# Altium footprint library SPST-NO Solid State Relay - IXYS.PcbLib: 1 footprints
Each footprint in its own frame and in the unit in brackets; x right, y up, seen from the top. Pads: shape width x height; smd on the part's side, far side on the other; paste and mask are expansions set on the pad; w line width, h text height; cw(c..) or ccw(c..) is an arc to the next point about the centre after c.
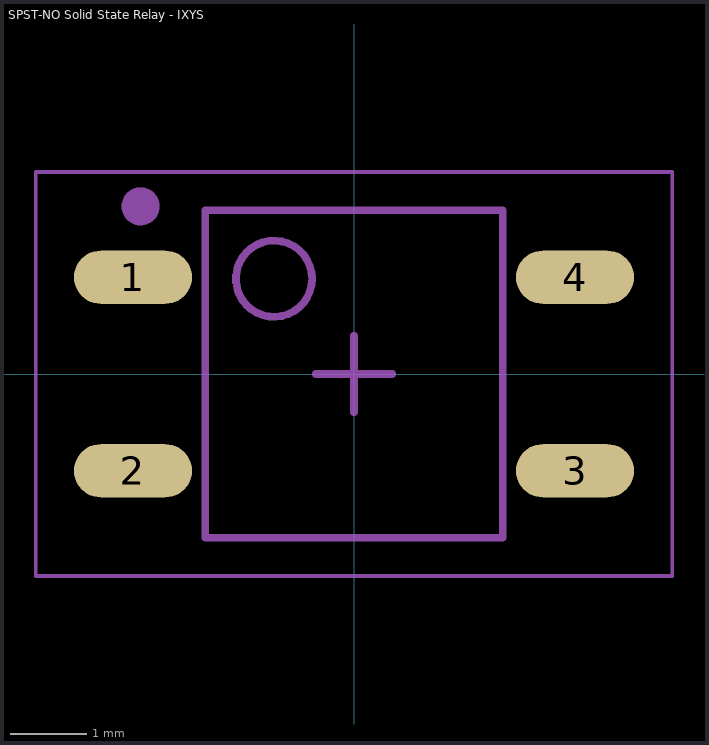
[diagram p0: the footprint, top view; thin cyan lines are the x and y axes]

## SPST-NO Solid State Relay - IXYS [mm] "Digikey: CLA233CT-ND / MFG: CPC1017NTR"
height 2.19
pads (4):
  oval 1.55x0.7 smd: 1(-2.9,1.27) 2(-2.9,-1.27) 3(2.9,-1.27) 4(2.9,1.27)
Mechanical 6:
  text "'.Designator'" at -1.1,-0.3 h0.6
Mechanical 8:
  circle w0.25: c-2.8,2.2 r0.125
  lines w0.05: -4.175,-2.65 -4.175,2.65 4.175,2.65 4.175,-2.65 -4.175,-2.65
Mechanical 13:
  circle w0.1: c-1.05,1.25 r0.5
  lines w0.1: -1.95,-2.15 1.95,-2.15 1.95,2.15 -1.95,2.15 -1.95,-2.15
Mechanical 15:
  lines w0.05: -4.175,-2.65 4.175,-2.65 4.175,2.65 -4.175,2.65 -4.175,-2.65
  lines w0.1: -0.5,0 0.5,0 ; 0,-0.5 0,0.5
3D body "SOP254P610X218-4M.step": height 2.18, standoff 0, extent -3.048,-2.15 3.048,2.15